# Altium integrated library LQP03HQ4N5J02D.IntLib: 1 symbol
Pins are listed as number, name and electrical type; pins without a type are passive.

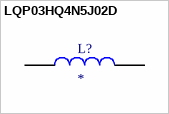
[diagram p0: symbol LQP03HQ4N5J02D]

## LQP03HQ4N5J02D
designator L?
Fixed Inductors 0603 4.4nH 3% 400mA 0.25ohm; MP: LQP03HQ4N5J02D; Package: None; Price: None; Value: *; Availability: Unavailable
footprint IND_LQP03HQ4N5J02D
pins: 1, 2